# Altium footprint library MGMEZZ04_Loopback.PcbLib: 50 footprints (part 3 of 4)
Each footprint in its own frame and in the unit in brackets; x right, y up, seen from the top. Pads: shape width x height; smd on the part's side, far side on the other; paste and mask are expansions set on the pad; w line width, h text height; cw(c..) or ccw(c..) is an arc to the next point about the centre after c.
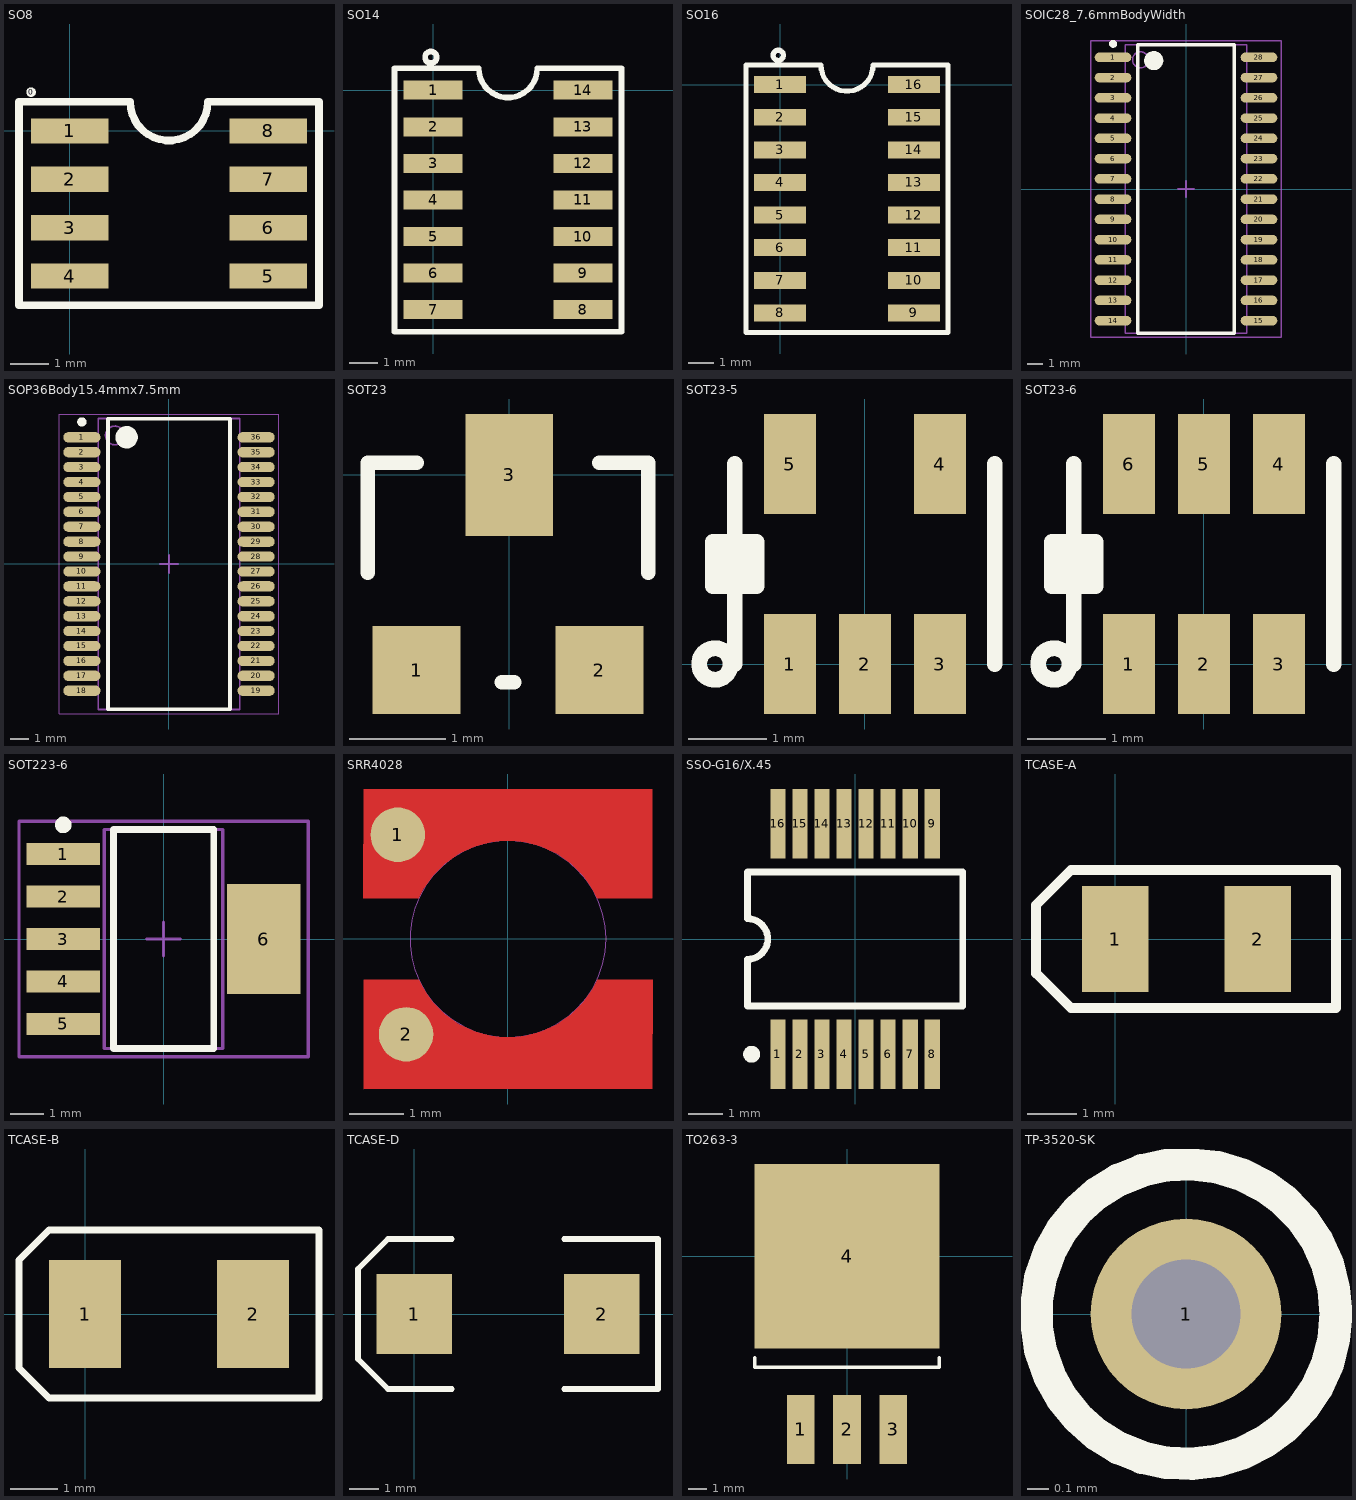
[diagram p2: the footprints below, top view; thin cyan lines are the x and y axes]

## SO8 [mil]
height 43.31
pads (9):
  round 10 on Top Overlay: 0(-40,40)
  rect 80x26 smd: 1(0,0) 2(0,-50) 3(0,-100) 4(0,-150) 5(205,-150) 6(205,-100) 7(205,-50) 8(205,0)
Top Overlay:
  lines w7.87: -52.5,-180 257.5,-180 257.5,30 142.5,30 cw(c102.5,30) 62.5,30 -52.5,30 -52.5,-180
3D body: height 39.37, standoff 0, extent -40,-165 245,15

## SO14 [mil]
height 43.31
pads (14):
  rect 80x26 smd: 1(0,0) 2(0,-50) 3(0,-100) 4(0,-150) 5(0,-200) 6(0,-250) 7(0,-300) 8(205,-300) 9(205,-250) 10(205,-200) 11(205,-150) 12(205,-100) 13(205,-50) 14(205,0)
Top Overlay:
  circle w7.87: c-2.87,45 r7.87
  lines w7.87: -52.5,-330 -52.5,30 62.5,30 ccw(c102.5,30) 142.5,30 257.5,30 257.5,-330 -52.5,-330

## SO16 [mil]
height 43.31
pads (16):
  rect 80x26 smd: 1(0,0) 2(0,-50) 3(0,-100) 4(0,-150) 5(0,-200) 6(0,-250) 7(0,-300) 8(0,-350) 9(205,-350) 10(205,-300) 11(205,-250) 12(205,-200) 13(205,-150) 14(205,-100) 15(205,-50) 16(205,0)
Top Overlay:
  circle w7.87: c-2.87,45 r7.87
  lines w7.87: -52.5,-380 257.5,-380 257.5,30 142.5,30 cw(c102.5,30) 62.5,30 -52.5,30 -52.5,-380

## SOIC28_7.6mmBodyWidth [mm] "SOIC, 28-Leads, Body 18.1x7.6mm (max), Pitch 1.27mm, IPC Medium Density"
height 2.65
pads (28):
  oval 2.3x0.6 smd: 1(-4.575,8.255) 2(-4.575,6.985) 3(-4.575,5.715) 4(-4.575,4.445) 5(-4.575,3.175) 6(-4.575,1.905) 7(-4.575,0.635) 8(-4.575,-0.635) 9(-4.575,-1.905) 10(-4.575,-3.175) 11(-4.575,-4.445) 12(-4.575,-5.715) 13(-4.575,-6.985) 14(-4.575,-8.255) 15(4.575,-8.255) 16(4.575,-6.985) 17(4.575,-5.715) 18(4.575,-4.445) 19(4.575,-3.175) 20(4.575,-1.905) 21(4.575,-0.635) 22(4.575,0.635) 23(4.575,1.905) 24(4.575,3.175) 25(4.575,4.445) 26(4.575,5.715) 27(4.575,6.985) 28(4.575,8.255)
Top Overlay:
  circle w0.6: c-2.025,8.05 r0.3
  circle w0.25: c-4.575,9.105 r0.125
  lines w0.2: -3.025,-9.05 3.025,-9.05 3.025,9.05 -3.025,9.05 -3.025,-9.05
Mechanical 13:
  circle w0.1: c-2.85,8.1 r0.5
  lines w0.1: -3.8,-9.05 3.8,-9.05 3.8,9.05 -3.8,9.05 -3.8,-9.05
Mechanical 15:
  lines w0.1: -0.5,0 0.5,0 ; 0,-0.5 0,0.5 ; -5.975,-9.3 5.975,-9.3 5.975,9.3 -5.975,9.3 -5.975,-9.3
3D body: height 2.65, standoff 0.23, extent -3.8,-9.05 3.8,9.05

## SOP36Body15.4mmx7.5mm [mm] "SOP, 36-Leads, Body 15.38x7.50mm, Pitch 0.80mm, IPC Medium Density"
height 2.65
pads (36):
  oval 2x0.55 smd: 1(-4.675,6.8) 2(-4.675,6) 3(-4.675,5.2) 4(-4.675,4.4) 5(-4.675,3.6) 6(-4.675,2.8) 7(-4.675,2) 8(-4.675,1.2) 9(-4.675,0.4) 10(-4.675,-0.4) 11(-4.675,-1.2) 12(-4.675,-2) 13(-4.675,-2.8) 14(-4.675,-3.6) 15(-4.675,-4.4) 16(-4.675,-5.2) 17(-4.675,-6) 18(-4.675,-6.8) 19(4.675,-6.8) 20(4.675,-6) 21(4.675,-5.2) 22(4.675,-4.4) 23(4.675,-3.6) 24(4.675,-2.8) 25(4.675,-2) 26(4.675,-1.2) 27(4.675,-0.4) 28(4.675,0.4) 29(4.675,1.2) 30(4.675,2) 31(4.675,2.8) 32(4.675,3.6) 33(4.675,4.4) 34(4.675,5.2) 35(4.675,6) 36(4.675,6.8)
Top Overlay:
  circle w0.6: c-2.275,6.8 r0.3
  circle w0.25: c-4.675,7.625 r0.125
  lines w0.2: -3.275,-7.8 3.275,-7.8 3.275,7.8 -3.275,7.8 -3.275,-7.8
Mechanical 13:
  circle w0.1: c-2.9,6.9 r0.5
  lines w0.1: -3.8,-7.8 3.8,-7.8 3.8,7.8 -3.8,7.8 -3.8,-7.8
Mechanical 15:
  lines w0.05: -5.9,-8.05 5.9,-8.05 5.9,8.05 -5.9,8.05 -5.9,-8.05
  lines w0.1: -0.5,0 0.5,0 ; 0,-0.5 0,0.5
3D body: height 2.65, standoff 0.1, extent -3.8,-7.8 3.8,7.8

## SOT23 [mil]
pads (3):
  rect 36x36 smd: 1(-38,-80) 2(37,-80)
  rect 36x50 smd: 3(0,0)
Top Overlay:
  lines w6: -58,-40 -58,5 -38,5 ; -3,-85 2,-85 ; 37,5 57,5 57,-40

## SOT23-5 [mil]
pads (5):
  rect 26x50 smd: 1(-37.5,0) 2(0,0) 3(37.5,0) 4(37.5,100) 5(-37.5,100)
Top Overlay:
  circle w7.87: c-75,0 r7.87
  lines w7.87: -70,39 -70,61 ; -65,0 -65,100 ; -60,39 -60,61 ; 65,0 65,100 ; -76,39 -54,39 -54,61 -76,61 -76,39

## SOT23-6 [mil]
pads (6):
  rect 26x50 smd: 1(-37.5,0) 2(0,0) 3(37.5,0) 4(37.5,100) 5(0,100) 6(-37.5,100)
Top Overlay:
  circle w7.87: c-75,0 r7.87
  lines w7.87: -70,39 -70,61 ; -65,0 -65,100 ; -60,39 -60,61 ; 65,0 65,100 ; -76,39 -76,61 -54,61 -54,39 -76,39

## SOT223-6 [mm] "SOT223, 6-Leads, Body 6.6x7.3mm (max), Pitch 1.27mm, IPC Medium Density"
height 1.8
pads (6):
  rect 2.2x0.65 smd: 1(-3,2.54) 2(-3,1.27) 3(-3,0) 4(-3,-1.27) 5(-3,-2.54)
  rect 2.2x3.3 smd: 6(3,0)
Top Overlay:
  circle w0.25: c-3,3.415 r0.125
  lines w0.2: -1.5,-3.275 1.5,-3.275 1.5,3.275 -1.5,3.275 -1.5,-3.275
Mechanical 13:
  lines w0.1: -1.775,-3.275 1.775,-3.275 1.775,3.275 -1.775,3.275 -1.775,-3.275
Mechanical 15:
  lines w0.1: -0.5,0 0.5,0 ; 0,-0.5 0,0.5 ; -4.325,-3.525 4.325,-3.525 4.325,3.525 -4.325,3.525 -4.325,-3.525
3D body: height 1.8, standoff 0.02, extent -1.775,-3.275 1.775,3.275

## SRR4028 [mm]
height 2.8
pads (2):
  round 1 smd: 1(-2.02,1.912) 2(-1.87,-1.749)
Top Layer:
  region: 1.8,-0.751 2.651,-0.751 2.65,-2.751 -2.649,-2.752 -2.648,-0.752 -1.8,-0.752 -1.636,-0.751 -1.558,-0.901 -1.474,-1.033 -1.378,-1.158 -1.273,-1.273 -1.157,-1.38 -1.032,-1.476 -0.901,-1.56 -0.76,-1.633 -0.616,-1.692 -0.465,-1.74 -0.312,-1.774 -0.157,-1.794 0.001,-1.801 0.157,-1.795 0.313,-1.773 0.466,-1.739 0.617,-1.692 0.761,-1.632 0.901,-1.56 1.033,-1.476 1.158,-1.38 1.273,-1.274 1.38,-1.158 1.475,-1.034 1.559,-0.901 1.632,-0.763 1.636,-0.751 1.801,-0.751
  region: -1.8,0.75 -2.65,0.75 -2.65,2.75 2.65,2.75 2.649,0.751 1.8,0.751 1.637,0.75 1.559,0.9 1.475,1.032 1.378,1.157 1.273,1.272 1.158,1.379 1.033,1.475 0.901,1.559 0.761,1.631 0.616,1.691 0.466,1.739 0.313,1.773 0.157,1.793 0,1.8 -0.156,1.793 -0.312,1.772 -0.466,1.738 -0.616,1.691 -0.761,1.631 -0.9,1.559 -1.033,1.474 -1.157,1.379 -1.273,1.273 -1.379,1.157 -1.475,1.033 -1.559,0.9 -1.631,0.762 -1.636,0.75 -1.8,0.75
Mechanical 3:
  circle w0.01: c0,0 r1.8

## SSO-G16/X.45 [mm]
pads (16):
  rect 0.45x2.05 smd: 1(-2.275,-3.4) 2(-1.625,-3.4) 3(-0.975,-3.4) 4(-0.325,-3.4) 5(0.325,-3.4) 6(0.975,-3.4) 7(1.625,-3.4) 8(2.275,-3.4) 9(2.275,3.4) 10(1.625,3.4) 11(0.975,3.4) 12(0.325,3.4) 13(-0.325,3.4) 14(-0.975,3.4) 15(-1.625,3.4) 16(-2.275,3.4)
Top Overlay:
  circle w0.25: c-3.05,-3.4 r0.125
  lines w0.2: -3.175,-0.625 -3.175,-1.975 3.175,-1.975 3.175,1.975 -3.175,1.975 -3.175,0.625 ; -3.175,-0.6 ccw(c-3.175,0) -3.175,0.6

## TCASE-A [mm]
pads (2):
  rect 1.35x2.15 smd: 1(0,0) 2(2.9,0)
Top Overlay:
  lines w0.2: -1.609,-0.7 -1.609,0.691 ; -1.6,-0.7 -0.9,-1.4 4.491,-1.4 4.491,1.4 -0.9,1.4 -1.6,0.7

## TCASE-B [mil]
pads (2):
  rect 60x90 smd: 1(0,0) 2(140,0)
Top Overlay:
  lines w6: -55,-45 -30,-70 195,-70 195,70 -30,70 -55,45 -55,-45

## TCASE-D [mm]
pads (2):
  rect 2.55x2.7 smd: 1(0,0) 2(6.35,0)
Top Overlay:
  lines w0.2: 1.27,-2.54 -0.889,-2.54 -1.905,-1.524 -1.905,1.524 -0.889,2.54 1.27,2.54 ; 5.08,-2.54 8.255,-2.54 8.255,2.54 5.08,2.54
3D body: height 1, standoff 0, extent -1.651,-2.286 8.001,2.286

## TO263-3 [mil]
pads (4):
  rect 60x150 smd: 1(-100,-375) 2(0,-375) 3(100,-375)
  rect 400x400 smd: 4(0,0)
Top Overlay:
  lines w7.87: -200,-220 -200,-240 200,-240 200,-220

## TP-3520-SK [mil]
pads (1):
  round 35 hole 20: 1(0,0)
Top Overlay:
  circle w6: c0,0 r27.5